# EAGLE library part SSD1306 (library micromousev2Parts)
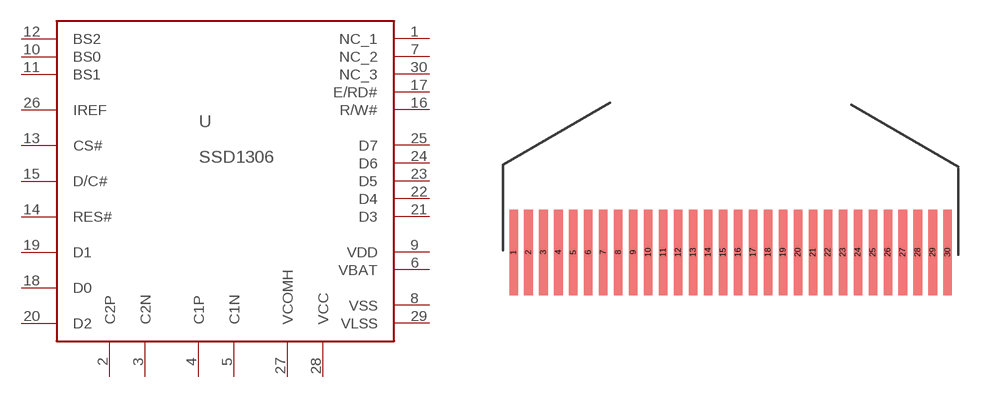
[diagram p9: symbol with the pads of 30PINFPC_P0.7MM; footprint 30PINFPC_P0.7MM]

Designator prefix -

## SSD1306  [30PINFPC_P0.7MM]
1  NC_1
2  C2P
3  C2N
4  C1P
5  C1N
6  VBAT
7  NC_2
8  VSS
9  VDD
10  BS0
11  BS1
12  BS2
13  CS#
14  RES#
15  D/C#
16  R/W#
17  E/RD#
18  D0
19  D1
20  D2
21  D3
22  D4
23  D5
24  D6
25  D7
26  IREF
27  VCOMH
28  VCC
29  VLSS
30  NC_3

## Footprint 30PINFPC_P0.7MM (pad centres in mm)
smd 0.4 x 4: 1 0,0; 2 0.7,0; 3 1.4,0; 4 2.1,0; 5 2.8,0; 6 3.5,0; 7 4.2,0; 8 4.9,0; 9 5.6,0; 10 6.3,0; 11 7,0; 12 7.7,0; 13 8.4,0; 14 9.1,0; 15 9.8,0; 16 10.5,0; 17 11.2,0; 18 11.9,0; 19 12.6,0; 20 13.3,0; 21 14,0; 22 14.7,0; 23 15.4,0; 24 16.1,0; 25 16.8,0; 26 17.5,0; 27 18.2,0; 28 18.9,0; 29 19.6,0; 30 20.3,0